# EAGLE library part REF_4V096_REF5040AIDR (library GTOR - Active Components)
Check prices <https://pricing.snapeda.com/parts/REF5040AIDR/Texas%20Instruments/view-part?ref=eda>
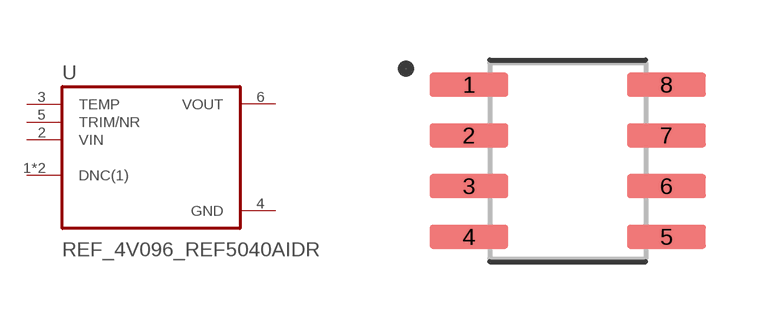
[diagram p12: symbol with the pads of SOIC127P599X175-8N; footprint SOIC127P599X175-8N]

Designator prefix U

## REF_4V096_REF5040AIDR (AVAILABILITY: In Stock; DESCRIPTION: 4.096-V, 3-Vpp/V noise, 3-ppm/C drift precision series voltage reference 8-SOIC -40 to 125; MF: Texas Instruments; MP: REF5040AIDR; PACKAGE: SOIC-8 Texas Instruments; PRICE: None; PURCHASE-URL: https://pricing.snapeda.com/search/part/REF5040AIDR/?ref=eda)  [SOIC127P599X175-8N]
1  DNC(1)
2  VIN  in
3  TEMP  in
4  GND  pwr
5  TRIM/NR  in
6  VOUT  out
8  DNC(1)

## Footprint SOIC127P599X175-8N (pad centres in mm)
smd 1.97 x 0.6: 1 -2.47,1.905; 2 -2.47,0.635; 3 -2.47,-0.635; 4 -2.47,-1.905; 5 2.47,-1.905; 6 2.47,-0.635; 7 2.47,0.635; 8 2.47,1.905